# Altium schematic symbol library 217179-0001.SchLib.SchLib: 1 symbol
Pins are listed as number, name and electrical type; pins without a type are passive.

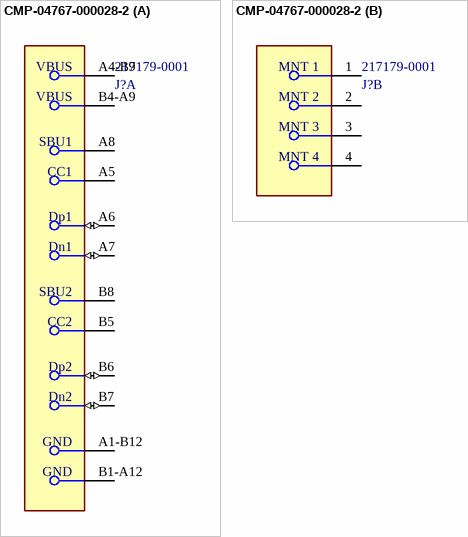
[diagram p0: symbol CMP-04767-000028-2]

## CMP-04767-000028-2
designator J?, comment 217179-0001
CONN RCP USB2.0 TYP C 24P SMD RA; NexarPartId: 117190526; Gender: Receptacle; Number of Contacts: 16; Current Rating: 1.25A; Voltage Rating: 30V; Min Operating Temperature: -40°C; USB Standard: USB 2.0; Height: 3.36mm; Contact Material: Gold, Nickel; Max Operating Temperature: 85°C
footprint FP-2171790001-MFG
part A pins: A1-B12 GND (power), A4-B9 VBUS (power), A5 CC1, A6 Dp1 (io), A7 Dn1 (io), A8 SBU1, B1-A12 GND (power), B4-A9 VBUS (power), B5 CC2, B6 Dp2 (io), B7 Dn2 (io), B8 SBU2
part B pins: 1 MNT 1, 2 MNT 2, 3 MNT 3 (power), 4 MNT 4 (power)